# EAGLE library part 428521420917 (library 428542320817_Eagle_WS-ROSV_rev20a)
WS-ROSV SMT Rotary Switch with Arrow Type Actuator 10x10 mm Material Properties Cover Material : LCP Packaging Properties Packaging :Tube Electrical Properties IR 1 :150 mA Properties Cover Flammability Rating:UL94 V-0 Actuator Material:LCP Actuator Flammability Rating:UL94 V-0 Actuator Color:Blue; Light Grey Base Material:LCP Base Flammability Rating:UL94 V-0 Terminal Plating:Gold Actuator Type:Shaft Type Washable:Yes Additional VR：24 V (DC) Mechanical Properties Electrical Life：10000 Steps Actuator Type：Shaft Type Code：Complement Code; Real Code General Information Operating Temperature:-40 up to +85 °C Tableadditional Actuator Type：Shaft Type Washable：Yes <https://www.we-online.com/catalog/media/o41283v209%20WS-ROSV_10x10.jpg> Details see: https://www.we-online.com/catalog/en/ROSV_10X10_WASHABLE_SMD_SHAFT_TYPE/ Updated by yingchun,Shan;2020-02-24 2020(C) Würth Elektronik
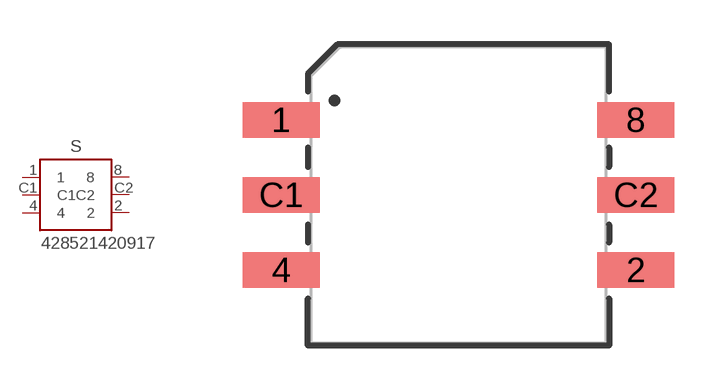
[diagram p3: symbol with the pads of 42852142091X_16POS; footprint 42852142091X_16POS]

Designator prefix S

## 428521420917 (DATASHEET-URL: https://www.we-online.com/catalog/datasheet/428521420917.pdf; NUMBER-OF-POSITION: 16; PART-NUMBER: 428521420917; QTY: 600)  [42852142091X_16POS]
1  1  pas
2  2  pas
4  4  pas
8  8  pas
C1  C1  pas
C2  C2  pas

## Footprint 42852142091X_16POS (pad centres in mm)
WS-ROSV SMT Rotary Switch with Shaft Type Actuator 10x10 mm
smd 2.6 x 1.2: 1 -6,2.54; 2 6,-2.54; 4 -6,-2.54; 8 6,2.54; C1 -6,0; C2 6,0